# EAGLE library part *556 (library IC_Clock-Timing)
556 Dual General purpose timer NE556, NA556, SA556 Datasheet <http://www.ti.com/general/docs/suppproductinfo.tsp?distId=10&gotoUrl=http%3A%2F%2Fwww.ti.com%2Flit%2Fgpn%2Fna556> TLC556 Datasheet <http://www.ti.com/general/docs/suppproductinfo.tsp?distId=10&gotoUrl=http%3A%2F%2Fwww.ti.com%2Flit%2Fgpn%2Ftlc556> TS556 Datasheet <http://www.st.com/content/ccc/resource/technical/document/datasheet/a5/a8/1f/d9/4d/3b/4b/42/CD00000894.pdf/files/CD00000894.pdf/jcr:content/translations/en.CD00000894.pdf> ICM7556 Datasheet <https://datasheets.maximintegrated.com/en/ds/ICM7555-ICM7556.pdf>
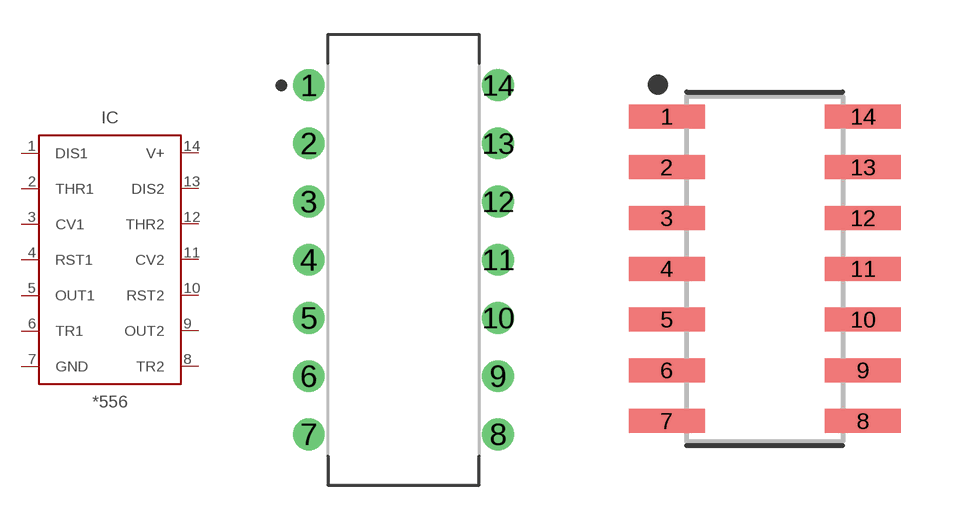
[diagram p0: symbol with the pads of DIP826W53P254L1930H508Q14B; footprints DIP826W53P254L1930H508Q14B, SOIC127P600X175-14N_1]

Designator prefix IC

## NA556_DIP (CATEGORY: IC_Clock-Timing; CURRENT-SUPPLY: 20mA; DESCRIPTION: IC OSC TIMER DUAL 14-DIP; MANUFACTURER: Texas Instruments; MPN: NA556N; OPERATING_TEMP: -40°C to 105°C; PART_STATUS: Active; ROHS_COMPLIANT: ROHS3 Compliant; SUB-CATEGORY: Dual Timer; VALUE: IC-556), NE556_DIP (CATEGORY: IC_Clock-Timing; CURRENT-SUPPLY: 20mA; DESCRIPTION: IC OSC TIMER DUAL 100KHZ 14-DIP; FREQUENCY: 100kHz; MANUFACTURER: Texas Instruments; MPN: NE556N; OPERATING_TEMP: 0°C to 70°C; PART_STATUS: Active; ROHS_COMPLIANT: ROHS3 Compliant; SUB-CATEGORY: Dual Timer; VALUE: IC-556), SA556_DIP (CATEGORY: IC_Clock-Timing; CURRENT-SUPPLY: 20mA; DESCRIPTION: IC OSC TIMER DUAL 100KHZ 14-DIP; FREQUENCY: 100kHz; MANUFACTURER: Texas Instruments; MPN: SA556N; OPERATING_TEMP: -40°C to 85°C; PART_STATUS: Active; ROHS_COMPLIANT: ROHS3 Compliant; SUB-CATEGORY: Dual Timer; VALUE: IC-556), TLC556_DIP (CATEGORY: IC_Clock-Timing; CURRENT-SUPPLY: 720µA; DESCRIPTION: IC OSC TIMER DUAL 2.1MHZ 14-DIP; FREQUENCY: 2.1MHz; MANUFACTURER: Texas Instruments; MPN: TLC556IN; OPERATING_TEMP: -40°C to 85°C; PART_STATUS: Active; ROHS_COMPLIANT: ROHS3 Compliant; SUB-CATEGORY: Dual Timer; VALUE: IC-556)  [DIP826W53P254L1930H508Q14B]
1  DIS1
2  THR1
3  CV1
4  RST1
5  OUT1  out
6  TR1
7  GND  pwr
8  TR2
9  OUT2  out
10  RST2
11  CV2
12  THR2
13  DIS2
14  V+  pwr

## ICM7556_SOIC (CATEGORY: IC_Clock-Timing; CURRENT-SUPPLY: 60µA; DESCRIPTION: IC OSC TIMER DUAL 500KHZ 14SOIC; FREQUENCY: 500kHz; MANUFACTURER: Maxim Integrated; MPN: ICM7556ISD+; OPERATING_TEMP: -20°C to 85°C; PART_STATUS: Active; ROHS_COMPLIANT: ROHS3 Compliant; SUB-CATEGORY: Dual Timer; VALUE: IC-556), NA556_SOIC (CATEGORY: IC_Clock-Timing; CURRENT-SUPPLY: 20mA; DESCRIPTION: IC OSC TIMER DUAL 14-SOIC; MANUFACTURER: Texas Instruments; MPN: NA556DR; OPERATING_TEMP: -40°C to 105°C; PART_STATUS: Active; ROHS_COMPLIANT: ROHS3 Compliant; SUB-CATEGORY: Dual Timer; VALUE: IC-556), NE556_SOIC (CATEGORY: IC_Clock-Timing; CURRENT-SUPPLY: 20mA; DESCRIPTION: IC OSC TIMER DUAL 100KHZ 14-SOIC; FREQUENCY: 100kHz; MANUFACTURER: Texas Instruments; MPN: NE556D; OPERATING_TEMP: 0°C to 70°C; PART_STATUS: Active; ROHS_COMPLIANT: ROHS3 Compliant; SUB-CATEGORY: Dual Timer; VALUE: IC-556), TLC556_SOIC (CATEGORY: IC_Clock-Timing; CURRENT-SUPPLY: 720µA; DESCRIPTION: IC OSC TIMER DUAL 2.1MHZ 14-SOIC; FREQUENCY: 2.1MHz; MANUFACTURER: Texas Instruments; MPN: TLC556MD; OPERATING_TEMP: -55°C to 125°C; PART_STATUS: Active; ROHS_COMPLIANT: ROHS3 Compliant; SUB-CATEGORY: Dual Timer; VALUE: IC-556), TS556_SOIC (CATEGORY: IC_Clock-Timing; CURRENT-SUPPLY: 130µA; DESCRIPTION: IC OSC TIMER DUAL 2.7MHZ 14SOIC; FREQUENCY: 2.7MHz; MANUFACTURER: STMicroelectronics; MPN: TS556IDTTR; OPERATING_TEMP: -40°C to 125°C; PART_STATUS: Active; ROHS_COMPLIANT: ROHS3 Compliant; SUB-CATEGORY: Dual Timer; VALUE: IC-556)  [SOIC127P600X175-14N_1]
Pads as for DIP826W53P254L1930H508Q14B

## Footprint DIP826W53P254L1930H508Q14B (pad centres in mm)
14-DIP, 2.54 mm (0.10 in) pitch, 8.26 mm (0.33 in) span, 19.30 X 6.35 X 5.08 mm body 14-pin DIP package with 2.54 mm (0.10 in) pitch, 8.26 mm (0.33 in) span with body size 19.30 X 6.35 X 5.08 mm
drill 0.786 pad 1.386 round: 1 -4.13,7.62; 2 -4.13,5.08; 3 -4.13,2.54; 4 -4.13,0; 5 -4.13,-2.54; 6 -4.13,-5.08; 7 -4.13,-7.62; 8 4.13,-7.62; 9 4.13,-5.08; 10 4.13,-2.54; 11 4.13,0; 12 4.13,2.54; 13 4.13,5.08; 14 4.13,7.62

## Footprint SOIC127P600X175-14N_1 (pad centres in mm)
14-SOIC, 1.27 mm pitch, 6.00 mm span, 8.65 X 3.90 X 1.75 mm body 14-pin SOIC package with 1.27 mm pitch, 6.00 mm span with body size 8.65 X 3.90 X 1.75 mm
smd 1.901 x 0.599: 1 -2.455,3.81; 2 -2.455,2.54; 3 -2.455,1.27; 4 -2.455,0; 5 -2.455,-1.27; 6 -2.455,-2.54; 7 -2.455,-3.81; 8 2.455,-3.81; 9 2.455,-2.54; 10 2.455,-1.27; 11 2.455,0; 12 2.455,1.27; 13 2.455,2.54; 14 2.455,3.81